# Altium footprint library MCP73871-2CCI_ML.PcbLib: 1 footprints
Each footprint in its own frame and in the unit in brackets; x right, y up, seen from the top. Pads: shape width x height; smd on the part's side, far side on the other; paste and mask are expansions set on the pad; w line width, h text height; cw(c..) or ccw(c..) is an arc to the next point about the centre after c.
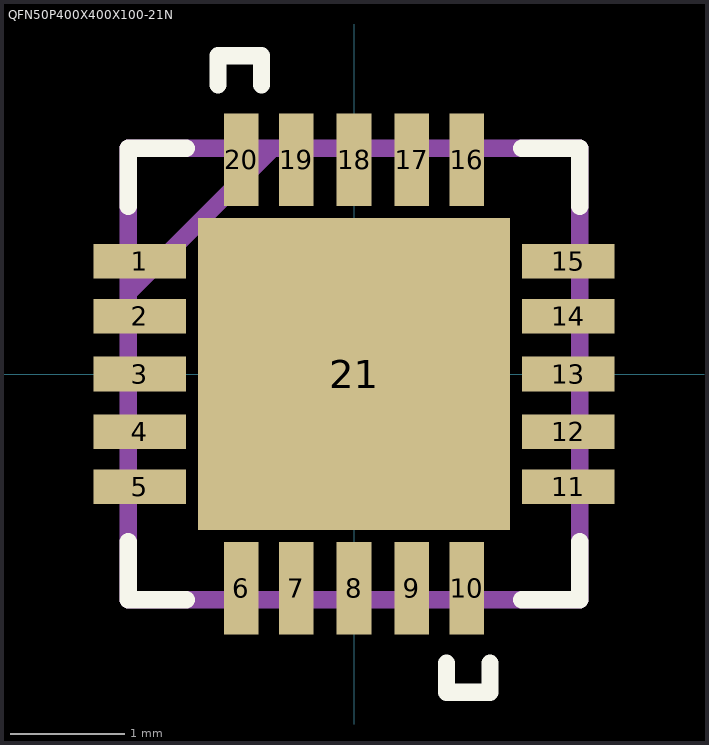
[diagram p0: the footprint, top view; thin cyan lines are the x and y axes]

## QFN50P400X400X100-21N [mil]
pads (21):
  rect 32x12 smd paste-1000 mask-1000: 1(-74,39) 2(-74,20) 3(-74,0) 4(-74,-20) 5(-74,-39) 11(74,-39) 12(74,-20) 13(74,0) 14(74,20) 15(74,39)
  rect 12x32 smd paste-1000 mask-1000: 6(-39,-74) 7(-20,-74) 8(0,-74) 9(20,-74) 10(39,-74) 16(39,74) 17(20,74) 18(0,74) 19(-20,74) 20(-39,74)
  rect 108x108 smd paste-1000 mask-1000: 21(0,0)
Top Overlay:
  lines w6: -78,-58 -78,-78 -58,-78 ; -78,58 -78,78 -58,78 ; -47,100 -47,110 -32,110 -32,100 ; 32,-100 32,-110 47,-110 47,-100 ; 58,-78 78,-78 78,-58 ; 58,78 78,78 78,58
Top Paste:
  region: -54,-54 54,-54 54,54 -54,54
  region: -33,90 -45,90 -45,58 -33,58
  region: -14,90 -26,90 -26,58 -14,58
  region: 6,90 -6,90 -6,58 6,58
  region: 26,90 14,90 14,58 26,58
  region: 45,90 33,90 33,58 45,58
  region: 58,45 58,33 90,33 90,45
  region: 58,26 58,14 90,14 90,26
  region: 58,6 58,-6 90,-6 90,6
  region: 58,-14 58,-26 90,-26 90,-14
  region: 58,-33 58,-45 90,-45 90,-33
  region: 45,-58 33,-58 33,-90 45,-90
  region: 26,-58 14,-58 14,-90 26,-90
  region: 6,-58 -6,-58 -6,-90 6,-90
  region: -14,-58 -26,-58 -26,-90 -14,-90
  region: -33,-58 -45,-58 -45,-90 -33,-90
  region: -90,-33 -90,-45 -58,-45 -58,-33
  region: -90,-14 -90,-26 -58,-26 -58,-14
  region: -90,6 -90,-6 -58,-6 -58,6
  region: -90,26 -90,14 -58,14 -58,26
  region: -90,45 -90,33 -58,33 -58,45
Top Solder:
  region: -57.94,-57.94 57.94,-57.94 57.94,57.94 -57.94,57.94
  region: -29.06,93.94 -48.94,93.94 -48.94,54.06 -29.06,54.06
  region: -10.06,93.94 -29.94,93.94 -29.94,54.06 -10.06,54.06
  region: 9.94,93.94 -9.94,93.94 -9.94,54.06 9.94,54.06
  region: 29.94,93.94 10.06,93.94 10.06,54.06 29.94,54.06
  region: 48.94,93.94 29.06,93.94 29.06,54.06 48.94,54.06
  region: 54.06,48.94 54.06,29.06 93.94,29.06 93.94,48.94
  region: 54.06,29.94 54.06,10.06 93.94,10.06 93.94,29.94
  region: 54.06,9.94 54.06,-9.94 93.94,-9.94 93.94,9.94
  region: 54.06,-10.06 54.06,-29.94 93.94,-29.94 93.94,-10.06
  region: 54.06,-29.06 54.06,-48.94 93.94,-48.94 93.94,-29.06
  region: 48.94,-54.06 29.06,-54.06 29.06,-93.94 48.94,-93.94
  region: 29.94,-54.06 10.06,-54.06 10.06,-93.94 29.94,-93.94
  region: 9.94,-54.06 -9.94,-54.06 -9.94,-93.94 9.94,-93.94
  region: -10.06,-54.06 -29.94,-54.06 -29.94,-93.94 -10.06,-93.94
  region: -29.06,-54.06 -48.94,-54.06 -48.94,-93.94 -29.06,-93.94
  region: -93.94,-29.06 -93.94,-48.94 -54.06,-48.94 -54.06,-29.06
  region: -93.94,-10.06 -93.94,-29.94 -54.06,-29.94 -54.06,-10.06
  region: -93.94,9.94 -93.94,-9.94 -54.06,-9.94 -54.06,9.94
  region: -93.94,29.94 -93.94,10.06 -54.06,10.06 -54.06,29.94
  region: -93.94,48.94 -93.94,29.06 -54.06,29.06 -54.06,48.94
Mechanical 1:
  lines w6: -78,-45 -78,-33 ; -78,-26 -78,-14 ; -78,-6 -78,6 ; -78,14 -78,26 ; -78,28 -28,78 ; -78,33 -78,45 ; -45,-78 -33,-78 ; -45,78 -33,78 ; -26,-78 -14,-78 ; -26,78 -14,78 ; -6,-78 6,-78 ; -6,78 6,78 ; 14,-78 26,-78 ; 14,78 26,78 ; 33,-78 45,-78 ; 33,78 45,78 ; 78,-45 78,-33 ; 78,-26 78,-14 ; 78,-6 78,6 ; 78,14 78,26 ; 78,33 78,45 ; -78,-78 -78,78 78,78 78,-78 -78,-78